# Altium footprint library Resistors.PcbLib: 73 footprints (part 1 of 5)
Each footprint in its own frame and in the unit in brackets; x right, y up, seen from the top. Pads: shape width x height; smd on the part's side, far side on the other; paste and mask are expansions set on the pad; w line width, h text height; cw(c..) or ccw(c..) is an arc to the next point about the centre after c.
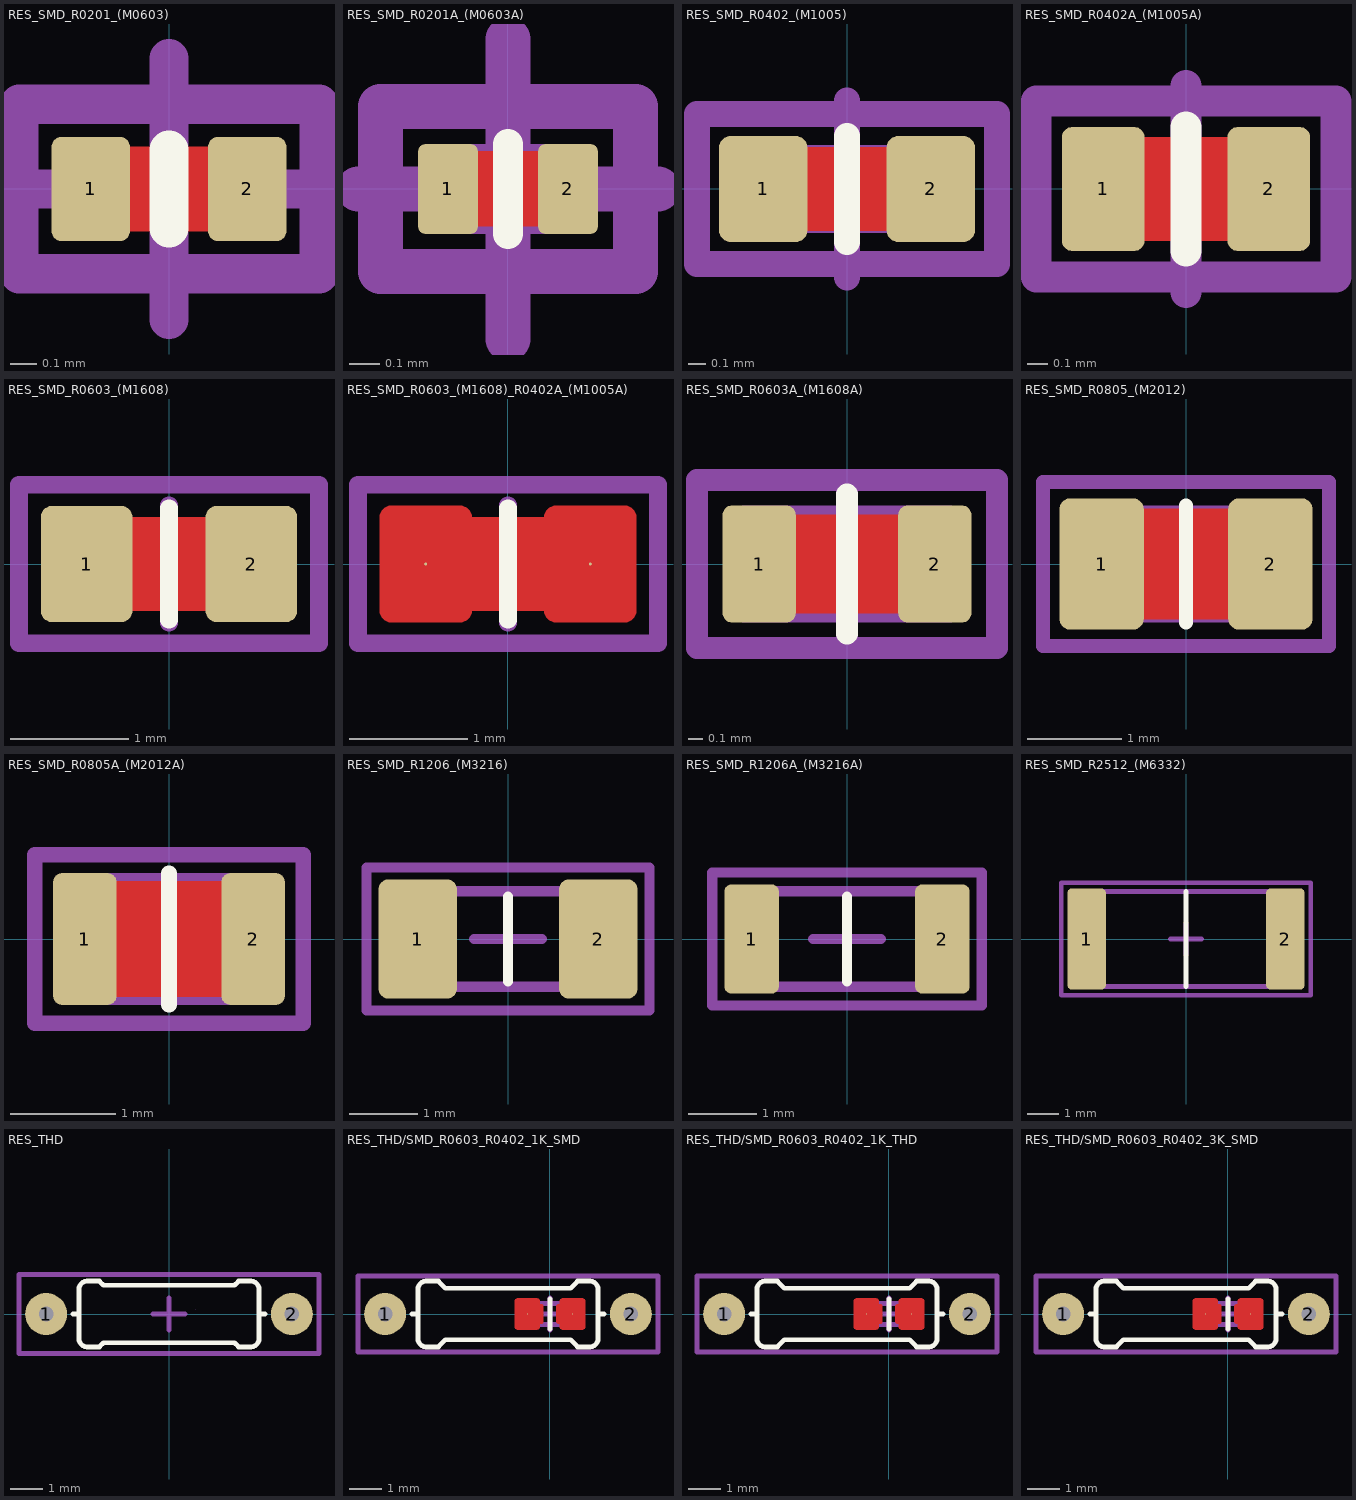
[diagram p0: the footprints below, top view; thin cyan lines are the x and y axes]

## RES_SMD_R0201_(M0603) [mm] "Resistor, SMD, 0.5x0.25mm, 0201"
pads (2):
  rrect25% 0.3x0.4 smd mask+0.05: 1(-0.3,0) 2(0.3,0)
Top Layer:
  pour cut-out: 0.2,0.162 -0.2,0.162 -0.2,-0.162 0.2,-0.162
Top Overlay:
  lines w0.15: 0,-0.15 0,0.15
Top Designator:
  text ".Designator" at -2.503,-0.266 h1.3
Mechanical 13:
  lines w0.15: -0.21,-0.075 0.22,-0.075 0.22,0.075 -0.21,0.075 -0.21,-0.075
Mechanical 15:
  lines w0.15: -0.5,0 0.5,0 ; 0,-0.5 0,0.5 ; -0.575,-0.325 0.575,-0.325 0.575,0.325 -0.575,0.325 -0.575,-0.325
3D body "0201(0603).x_t": height 0.24, standoff 0, extent -0.3,-0.15 0.3,0.15

## RES_SMD_R0201A_(M0603A) [mm] "Resistor, SMD, 0.5x0.25mm, 0201"
pads (2):
  rrect25% 0.2x0.3 smd mask+0.05: 1(-0.2,0) 2(0.2,0)
Top Layer:
  pour cut-out: 0.2,0.125 -0.2,0.125 -0.2,-0.125 0.2,-0.125
Top Overlay:
  lines w0.1: 0,-0.15 0,0.15
Top Designator:
  text ".Designator" at -2.503,-0.266 h1.3
Mechanical 13:
  lines w0.15: -0.21,-0.075 -0.21,0.075 0.22,0.075 0.22,-0.075 -0.21,-0.075
Mechanical 15:
  lines w0.15: -0.5,0 0.5,0 ; 0,-0.5 0,0.5 ; -0.425,-0.275 -0.425,0.275 0.425,0.275 0.425,-0.275 -0.425,-0.275
3D body "0201(0603).x_t": height 0.24, standoff 0, extent -0.3,-0.15 0.3,0.15

## RES_SMD_R0402_(M1005) [mm] "Resistor, SMD, 1.0x0.5mm, 0402"
pads (2):
  rrect25% 0.5x0.6 smd mask+0.05: 1(-0.475,0) 2(0.475,0)
Top Layer:
  pour cut-out: -0.325,0.238 0.325,0.238 0.325,-0.238 -0.325,-0.238
Top Overlay:
  lines w0.15: 0,-0.3 0,0.3
Top Designator:
  text ".Designator" at -2.503,-0.266 h1.3
Mechanical 13:
  lines w0.15: -0.425,-0.175 0.425,-0.175 0.425,0.175 -0.425,0.175 -0.425,-0.175
Mechanical 15:
  lines w0.15: -0.5,0 0.5,0 ; 0,-0.5 0,0.5 ; -0.85,-0.425 0.85,-0.425 0.85,0.425 -0.85,0.425 -0.85,-0.425
3D body "0402(1005).x_t": height 0.36, standoff 0, extent -0.5,-0.25 0.5,0.25

## RES_SMD_R0402A_(M1005A) [mm] "Resistor, SMD, 1.0x0.5mm, 0402"
pads (2):
  rrect25% 0.4x0.6 smd mask+0.05: 1(-0.4,0) 2(0.4,0)
Top Layer:
  pour cut-out: -0.325,0.25 0.325,0.25 0.325,-0.25 -0.325,-0.25
Top Overlay:
  lines w0.15: 0,-0.3 0,0.3
Top Designator:
  text ".Designator" at -2.503,-0.266 h1.3
Mechanical 13:
  lines w0.15: -0.425,-0.175 0.425,-0.175 0.425,0.175 -0.425,0.175 -0.425,-0.175
Mechanical 15:
  lines w0.15: -0.5,0 0.5,0 ; 0,-0.5 0,0.5 ; -0.725,-0.425 0.725,-0.425 0.725,0.425 -0.725,0.425 -0.725,-0.425
3D body "0402(1005).x_t": height 0.36, standoff 0, extent -0.5,-0.25 0.5,0.25

## RES_SMD_R0603_(M1608) [mm] "Resistor, SMD, 1.6x0.8mm, 0603"
pads (2):
  rrect25% 0.78x0.99 smd: 1(-0.7,0) 2(0.7,0)
Top Layer:
  pour cut-out: -0.407,0.397 0.407,0.397 0.407,-0.397 -0.407,-0.397
Top Overlay:
  lines w0.15: 0,-0.475 0,0.475
Top Designator:
  text ".Designator" at -2.503,-0.266 h1.3
Mechanical 13:
  lines w0.15: -0.7,-0.325 0.7,-0.325 0.7,0.325 -0.7,0.325 -0.7,-0.325
Mechanical 15:
  lines w0.15: -0.5,0 0.5,0 ; 0,-0.5 0,0.5 ; -1.275,-0.675 -1.275,0.675 1.275,0.675 1.275,-0.675 -1.275,-0.675
3D body "Resistor 0603 Without Marking.STEP": height 0.46, standoff 0, extent -0.8,-0.4 0.8,0.4

## RES_SMD_R0603_(M1608)_R0402A_(M1005A) [mil] "Resistor, SMD, 1.6x0.8mm, 0603"
pads (2):
  round 1 smd: 1(-27.56,0) 2(27.56,0)
Top Layer:
  pour cut-out: -16.04,15.65 16.04,15.65 16.04,-15.65 -16.04,-15.65
  region: 16.04,-19.49 39.07,-19.49 39.84,-19.49 41.25,-18.9 42.33,-17.83 42.91,-16.41 42.91,-15.65 42.91,15.65 42.91,16.41 42.33,17.82 41.25,18.9 39.84,19.49 39.08,19.49 39.07,19.49 16.04,19.49 15.28,19.49 13.87,18.9 12.79,17.82 12.21,16.41 12.21,15.65 12.2,15.65 12.2,11.81 9.84,11.81 9.45,11.81 8.73,11.51 8.17,10.96 7.87,10.23 7.88,9.84 7.87,9.84 7.87,-9.84 7.87,-10.23 8.17,-10.96 8.73,-11.51 9.45,-11.81 9.84,-11.81 12.2,-11.81 12.2,-15.65 12.2,-16.41 12.79,-17.82 13.87,-18.91 15.28,-19.49
  region: -16.04,-19.49 -39.07,-19.49 -39.84,-19.49 -41.25,-18.9 -42.33,-17.83 -42.91,-16.41 -42.91,-15.65 -42.91,15.65 -42.91,16.41 -42.33,17.82 -41.25,18.9 -39.84,19.49 -39.08,19.49 -39.07,19.49 -16.04,19.49 -15.28,19.49 -13.87,18.9 -12.79,17.82 -12.21,16.41 -12.21,15.65 -12.2,15.65 -12.2,11.81 -9.84,11.81 -9.45,11.81 -8.73,11.51 -8.17,10.96 -7.87,10.23 -7.88,9.84 -7.87,9.84 -7.87,-9.84 -7.87,-10.23 -8.17,-10.96 -8.73,-11.51 -9.45,-11.81 -9.84,-11.81 -12.2,-11.81 -12.2,-15.65 -12.2,-16.41 -12.79,-17.82 -13.87,-18.91 -15.28,-19.49
Top Overlay:
  lines w5.91: 0,-18.7 0,18.7
Top Designator:
  text ".Designator" at -98.53,-10.48 h51.18
Mechanical 13:
  lines w5.91: -27.56,-12.8 27.56,-12.8 27.56,12.8 -27.56,12.8 -27.56,-12.8
Mechanical 15:
  lines w5.91: -19.68,0 19.69,0 ; 0,-19.69 0,19.68 ; -50.2,-26.57 -50.2,26.57 50.2,26.57 50.2,-26.57 -50.2,-26.57
3D body "Resistor 0603 Without Marking.STEP": height 17.91, standoff 0, extent -31.5,-15.75 31.5,15.75

## RES_SMD_R0603A_(M1608A) [mm] "Resistor, SMD, 1.6x0.8mm, 0603"
pads (2):
  rrect25% 0.5x0.8 smd: 1(-0.6,0) 2(0.6,0)
Top Layer:
  pour cut-out: -0.407,0.338 0.407,0.338 0.407,-0.338 -0.407,-0.338
Top Overlay:
  lines w0.15: 0,-0.475 0,0.475
Top Designator:
  text ".Designator" at -2.503,-0.266 h1.3
Mechanical 13:
  lines w0.15: -0.7,-0.325 -0.7,0.325 0.7,0.325 0.7,-0.325 -0.7,-0.325
Mechanical 15:
  lines w0.15: -0.5,0 0.5,0 ; 0,-0.5 0,0.5 ; -1.025,-0.575 1.025,-0.575 1.025,0.575 -1.025,0.575 -1.025,-0.575
3D body "Resistor 0603 Without Marking.STEP": height 0.46, standoff 0, extent -0.8,-0.4 0.8,0.4

## RES_SMD_R0805_(M2012) [mm] "Resistor, SMD, 2.0x1.3mm, 0805"
pads (2):
  rrect25% 0.9x1.4 smd: 1(-0.9,0) 2(0.9,0)
Top Layer:
  pour cut-out: -0.55,0.588 -0.55,-0.588 0.575,-0.588 0.575,0.588
Top Overlay:
  lines w0.15: 0,-0.625 0,0.625
Top Designator:
  text ".Designator" at -2.503,-0.266 h1.3
Mechanical 13:
  lines w0.15: -0.925,-0.55 0.925,-0.55 0.925,0.55 -0.925,0.55 -0.925,-0.55
Mechanical 15:
  lines w0.15: -0.5,0 0.5,0 ; 0,-0.5 0,0.5 ; -1.525,-0.875 -1.525,0.875 1.525,0.875 1.525,-0.875 -1.525,-0.875
3D body "Resistor 0805 Without Marking.STEP": height 0.56, standoff 0, extent -1,-0.625 1,0.625

## RES_SMD_R0805A_(M2012A) [mm] "Resistor, SMD, 2.0x1.3mm, 0805"
pads (2):
  rrect25% 0.6x1.25 smd: 1(-0.8,0) 2(0.8,0)
Top Layer:
  pour cut-out: -0.55,0.55 -0.55,-0.55 0.575,-0.55 0.575,0.55
Top Overlay:
  lines w0.15: 0,-0.625 0,0.625
Top Designator:
  text ".Designator" at -2.503,-0.266 h1.3
Mechanical 13:
  lines w0.15: -0.925,-0.55 0.925,-0.55 0.925,0.55 -0.925,0.55 -0.925,-0.55
Mechanical 15:
  lines w0.15: -0.5,0 0.5,0 ; 0,-0.5 0,0.5 ; -1.275,-0.8 -1.275,0.8 1.275,0.8 1.275,-0.8 -1.275,-0.8
3D body "Resistor 0805 Without Marking.STEP": height 0.56, standoff 0, extent -1,-0.625 1,0.625

## RES_SMD_R1206_(M3216) [mm] "Resistor, SMD, 3.2x1.6mm, 1206"
pads (2):
  rrect25% 1.15x1.75 smd: 1(-1.325,0) 2(1.325,0)
Top Overlay:
  lines w0.15: 0,-0.625 0,0.625
Top Designator:
  text ".Designator" at -2.503,-0.266 h1.3
Mechanical 13:
  lines w0.15: -1.475,-0.7 -1.475,0.7 1.475,0.7 1.475,-0.7 -1.475,-0.7
Mechanical 15:
  lines w0.15: -0.5,0 0.5,0 ; 0,-0.5 0,0.5 ; -2.075,-1.05 2.075,-1.05 2.075,1.05 -2.075,1.05 -2.075,-1.05
3D body "Resistor 1206 Without Marking.STEP": height 0.56, standoff 0, extent -1.55,-0.775 1.55,0.775

## RES_SMD_R1206A_(M3216A) [mm] "Resistor, SMD, 3.2x1.6mm, 1206"
pads (2):
  rrect25% 0.8x1.6 smd: 1(-1.4,0) 2(1.4,0)
Top Overlay:
  lines w0.15: 0,-0.625 0,0.625
Top Designator:
  text ".Designator" at -2.503,-0.266 h1.3
Mechanical 13:
  lines w0.15: -1.475,-0.7 -1.475,0.7 1.475,0.7 1.475,-0.7 -1.475,-0.7
Mechanical 15:
  lines w0.15: -0.5,0 0.5,0 ; 0,-0.5 0,0.5 ; -1.975,-0.975 1.975,-0.975 1.975,0.975 -1.975,0.975 -1.975,-0.975
3D body "Resistor 1206 Without Marking.STEP": height 0.56, standoff 0, extent -1.55,-0.775 1.55,0.775

## RES_SMD_R2512_(M6332) [mil] "Resistor, SMD, 2510"
pads (2):
  rrect25% 49x127.95 smd: 1(-125.5,0) 2(125.5,0)
Top Overlay:
  lines w5.91: 0,-60.04 0,60.04
Top Designator:
  text ".Designator" at -98.53,-10.48 h51.18
Mechanical 13:
  lines w5.91: -123.03,-60 -123.03,60 123.03,60 123.03,-60 -123.03,-60
Mechanical 15:
  lines w5.91: -19.68,0 19.69,0 ; 0,-19.69 0,19.68 ; -157.48,-70.87 157.48,-70.87 157.48,70.87 -157.48,70.87 -157.48,-70.87
3D body "R2512 ERJ1TN Thick.step": height 23.62, standoff 0, extent -125.98,-62.99 125.98,62.99

## RES_THD [mm] "Resistor, Through Hole"
pads (2):
  round 1.3 hole 0.45: 1(-3.81,0) 2(3.81,0)
Top Overlay:
  lines w0.15: -2.983,0 -2.84,0 ; 2.84,0 2.983,0 ; -2.792,-0.764 ccw(c-2.538,-0.764) -2.538,-1.018 -2.157,-1.018 -2.03,-0.891 2.03,-0.891 2.157,-1.018 2.538,-1.018 ccw(c2.538,-0.764) 2.792,-0.764 2.792,0.764 ccw(c2.538,0.764) 2.538,1.018 2.157,1.018 2.03,0.891 -2.03,0.891 -2.157,1.018 -2.538,1.018 ccw(c-2.538,0.764) -2.792,0.764 -2.792,-0.764
Top Designator:
  text ".Designator" at -2.503,-0.266 h1.3
Mechanical 15:
  lines w0.003: 0.825,0.127 0.826,0.127
  lines w0.15: -0.5,0 0.5,0 ; 0,-0.5 0,0.5 ; -4.65,-1.225 4.65,-1.225 4.65,1.225 -4.65,1.225 -4.65,-1.225
3D body "Ðåçèñòîð Âûâîäíîé Ãîðèçîíòàëüíûé.stp": height 2.41, standoff -1.5, extent -4.025,-1.167 4.025,1.167

## RES_THD/SMD_R0603_R0402_1K_SMD [mm] "Resistor, Through Hole"
pads (4):
  round 1.3 hole 0.45: 1(-5.11,0) 2(2.51,0)
  round 0.025 smd: 1(-0.7,0) 2(0.7,0)
Top Layer:
  region: -0.408,-0.495 -0.992,-0.495 -1.012,-0.495 -1.048,-0.48 -1.075,-0.453 -1.09,-0.417 -1.09,-0.398 -1.09,-0.397 -1.09,0.397 -1.09,0.417 -1.075,0.453 -1.048,0.48 -1.012,0.495 -0.993,0.495 -0.992,0.495 -0.407,0.495 -0.388,0.495 -0.352,0.48 -0.325,0.453 -0.31,0.417 -0.31,0.397 -0.31,0.3 -0.25,0.3 -0.24,0.3 -0.222,0.292 -0.208,0.278 -0.2,0.26 -0.2,0.25 -0.2,-0.25 -0.2,-0.26 -0.208,-0.278 -0.222,-0.292 -0.24,-0.3 -0.25,-0.3 -0.31,-0.3 -0.31,-0.397 -0.31,-0.417 -0.325,-0.453 -0.352,-0.48 -0.388,-0.495
  region: 0.408,-0.495 0.993,-0.495 1.012,-0.495 1.048,-0.48 1.075,-0.453 1.09,-0.417 1.09,-0.398 1.09,-0.397 1.09,0.397 1.09,0.417 1.075,0.453 1.048,0.48 1.012,0.495 0.993,0.495 0.408,0.495 0.388,0.495 0.352,0.48 0.325,0.453 0.31,0.417 0.31,0.397 0.31,0.3 0.25,0.3 0.24,0.3 0.222,0.292 0.208,0.278 0.2,0.26 0.2,0.25 0.2,-0.25 0.2,-0.26 0.208,-0.278 0.222,-0.292 0.24,-0.3 0.25,-0.3 0.31,-0.3 0.31,-0.397 0.31,-0.417 0.325,-0.453 0.352,-0.48 0.388,-0.495
Top Overlay:
  lines w0.15: -4.275,0 -4.14,0 ; 0,-0.475 0,0.475 ; 1.54,0 1.675,0 ; -4.092,-0.764 ccw(c-3.838,-0.764) -3.838,-1.018 -3.457,-1.018 -3.239,-0.8 0.639,-0.8 0.857,-1.018 1.238,-1.018 ccw(c1.238,-0.764) 1.492,-0.764 1.492,0.764 ccw(c1.238,0.764) 1.238,1.018 0.857,1.018 0.639,0.8 -3.239,0.8 -3.457,1.018 -3.838,1.018 ccw(c-3.838,0.764) -4.092,0.764 -4.092,-0.764
  text ".Comment" at -4.487,-0.383 h1.3
Top Designator:
  text ".Designator" at -2.503,-0.266 h1.3
Mechanical 13:
  lines w0.15: -0.7,-0.325 0.7,-0.325 0.7,0.325 -0.7,0.325 -0.7,-0.325
Mechanical 15:
  lines w0.003: -0.275,0.127 -0.274,0.127
  lines w0.15: -0.5,0 0.5,0 ; 0,-0.5 0,0.5 ; -5.95,-1.175 3.35,-1.175 3.35,1.175 -5.95,1.175 -5.95,-1.175
3D body "1K.x_t": height 0.46, standoff 0, extent -0.8,-0.4 0.8,0.4

## RES_THD/SMD_R0603_R0402_1K_THD [mm] "Resistor, Through Hole"
pads (4):
  round 1.3 hole 0.45: 1(-5.11,0) 2(2.51,0)
  round 0.025 smd: 1(-0.7,0) 2(0.7,0)
Top Layer:
  region: 0.408,-0.495 0.993,-0.495 1.012,-0.495 1.048,-0.48 1.075,-0.453 1.09,-0.417 1.09,-0.398 1.09,-0.397 1.09,0.397 1.09,0.417 1.075,0.453 1.048,0.48 1.012,0.495 0.993,0.495 0.408,0.495 0.388,0.495 0.352,0.48 0.325,0.453 0.31,0.417 0.31,0.397 0.31,0.3 0.25,0.3 0.24,0.3 0.222,0.292 0.208,0.278 0.2,0.26 0.2,0.25 0.2,-0.25 0.2,-0.26 0.208,-0.278 0.222,-0.292 0.24,-0.3 0.25,-0.3 0.31,-0.3 0.31,-0.397 0.31,-0.417 0.325,-0.453 0.352,-0.48 0.388,-0.495
  region: -0.408,-0.495 -0.992,-0.495 -1.012,-0.495 -1.048,-0.48 -1.075,-0.453 -1.09,-0.417 -1.09,-0.398 -1.09,-0.397 -1.09,0.397 -1.09,0.417 -1.075,0.453 -1.048,0.48 -1.012,0.495 -0.993,0.495 -0.992,0.495 -0.407,0.495 -0.388,0.495 -0.352,0.48 -0.325,0.453 -0.31,0.417 -0.31,0.397 -0.31,0.3 -0.25,0.3 -0.24,0.3 -0.222,0.292 -0.208,0.278 -0.2,0.26 -0.2,0.25 -0.2,-0.25 -0.2,-0.26 -0.208,-0.278 -0.222,-0.292 -0.24,-0.3 -0.25,-0.3 -0.31,-0.3 -0.31,-0.397 -0.31,-0.417 -0.325,-0.453 -0.352,-0.48 -0.388,-0.495
Top Overlay:
  lines w0.15: -4.275,0 -4.14,0 ; 0,-0.475 0,0.475 ; 1.54,0 1.675,0 ; -4.092,-0.764 ccw(c-3.838,-0.764) -3.838,-1.018 -3.457,-1.018 -3.239,-0.8 0.639,-0.8 0.857,-1.018 1.238,-1.018 ccw(c1.238,-0.764) 1.492,-0.764 1.492,0.764 ccw(c1.238,0.764) 1.238,1.018 0.857,1.018 0.639,0.8 -3.239,0.8 -3.457,1.018 -3.838,1.018 ccw(c-3.838,0.764) -4.092,0.764 -4.092,-0.764
  text ".Comment" at -4.487,-0.383 h1.3
Top Designator:
  text ".Designator" at -2.503,-0.266 h1.3
Mechanical 13:
  lines w0.15: -0.7,-0.325 -0.7,0.325 0.7,0.325 0.7,-0.325 -0.7,-0.325
Mechanical 15:
  lines w0.003: -0.275,0.127 -0.274,0.127
  lines w0.15: -0.5,0 0.5,0 ; 0,-0.5 0,0.5 ; -5.95,-1.175 -5.95,1.175 3.35,1.175 3.35,-1.175 -5.95,-1.175
3D body "Ðåçèñòîð Âûâîäíîé Ãîðèçîíòàëüíûé 1êÎì.stp": height 2.41, standoff -1.5, extent -5.325,-1.167 2.725,1.167

## RES_THD/SMD_R0603_R0402_3K_SMD [mm] "Resistor, Through Hole"
pads (4):
  round 1.3 hole 0.45: 1(-5.11,0) 2(2.51,0)
  round 0.025 smd: 1(-0.7,0) 2(0.7,0)
Top Layer:
  region: -0.408,-0.495 -0.992,-0.495 -1.012,-0.495 -1.048,-0.48 -1.075,-0.453 -1.09,-0.417 -1.09,-0.398 -1.09,-0.397 -1.09,0.397 -1.09,0.417 -1.075,0.453 -1.048,0.48 -1.012,0.495 -0.993,0.495 -0.992,0.495 -0.407,0.495 -0.388,0.495 -0.352,0.48 -0.325,0.453 -0.31,0.417 -0.31,0.397 -0.31,0.3 -0.25,0.3 -0.24,0.3 -0.222,0.292 -0.208,0.278 -0.2,0.26 -0.2,0.25 -0.2,-0.25 -0.2,-0.26 -0.208,-0.278 -0.222,-0.292 -0.24,-0.3 -0.25,-0.3 -0.31,-0.3 -0.31,-0.397 -0.31,-0.417 -0.325,-0.453 -0.352,-0.48 -0.388,-0.495
  region: 0.408,-0.495 0.993,-0.495 1.012,-0.495 1.048,-0.48 1.075,-0.453 1.09,-0.417 1.09,-0.398 1.09,-0.397 1.09,0.397 1.09,0.417 1.075,0.453 1.048,0.48 1.012,0.495 0.993,0.495 0.408,0.495 0.388,0.495 0.352,0.48 0.325,0.453 0.31,0.417 0.31,0.397 0.31,0.3 0.25,0.3 0.24,0.3 0.222,0.292 0.208,0.278 0.2,0.26 0.2,0.25 0.2,-0.25 0.2,-0.26 0.208,-0.278 0.222,-0.292 0.24,-0.3 0.25,-0.3 0.31,-0.3 0.31,-0.397 0.31,-0.417 0.325,-0.453 0.352,-0.48 0.388,-0.495
Top Overlay:
  lines w0.15: -4.275,0 -4.14,0 ; 0,-0.475 0,0.475 ; 1.54,0 1.675,0 ; -4.092,-0.764 ccw(c-3.838,-0.764) -3.838,-1.018 -3.457,-1.018 -3.239,-0.8 0.639,-0.8 0.857,-1.018 1.238,-1.018 ccw(c1.238,-0.764) 1.492,-0.764 1.492,0.764 ccw(c1.238,0.764) 1.238,1.018 0.857,1.018 0.639,0.8 -3.239,0.8 -3.457,1.018 -3.838,1.018 ccw(c-3.838,0.764) -4.092,0.764 -4.092,-0.764
  text ".Comment" at -4.487,-0.383 h1.3
Top Designator:
  text ".Designator" at -2.503,-0.266 h1.3
Mechanical 13:
  lines w0.15: -0.7,-0.325 0.7,-0.325 0.7,0.325 -0.7,0.325 -0.7,-0.325
Mechanical 15:
  lines w0.003: -0.275,0.127 -0.274,0.127
  lines w0.15: -0.5,0 0.5,0 ; 0,-0.5 0,0.5 ; -5.95,-1.175 3.35,-1.175 3.35,1.175 -5.95,1.175 -5.95,-1.175
3D body "3K.x_t": height 0.46, standoff 0, extent -0.8,-0.4 0.8,0.4